# Altium footprint library C SMD .PcbLib: 37 footprints (part 2 of 3)
Each footprint in its own frame and in the unit in brackets; x right, y up, seen from the top. Pads: shape width x height; smd on the part's side, far side on the other; paste and mask are expansions set on the pad; w line width, h text height; cw(c..) or ccw(c..) is an arc to the next point about the centre after c.
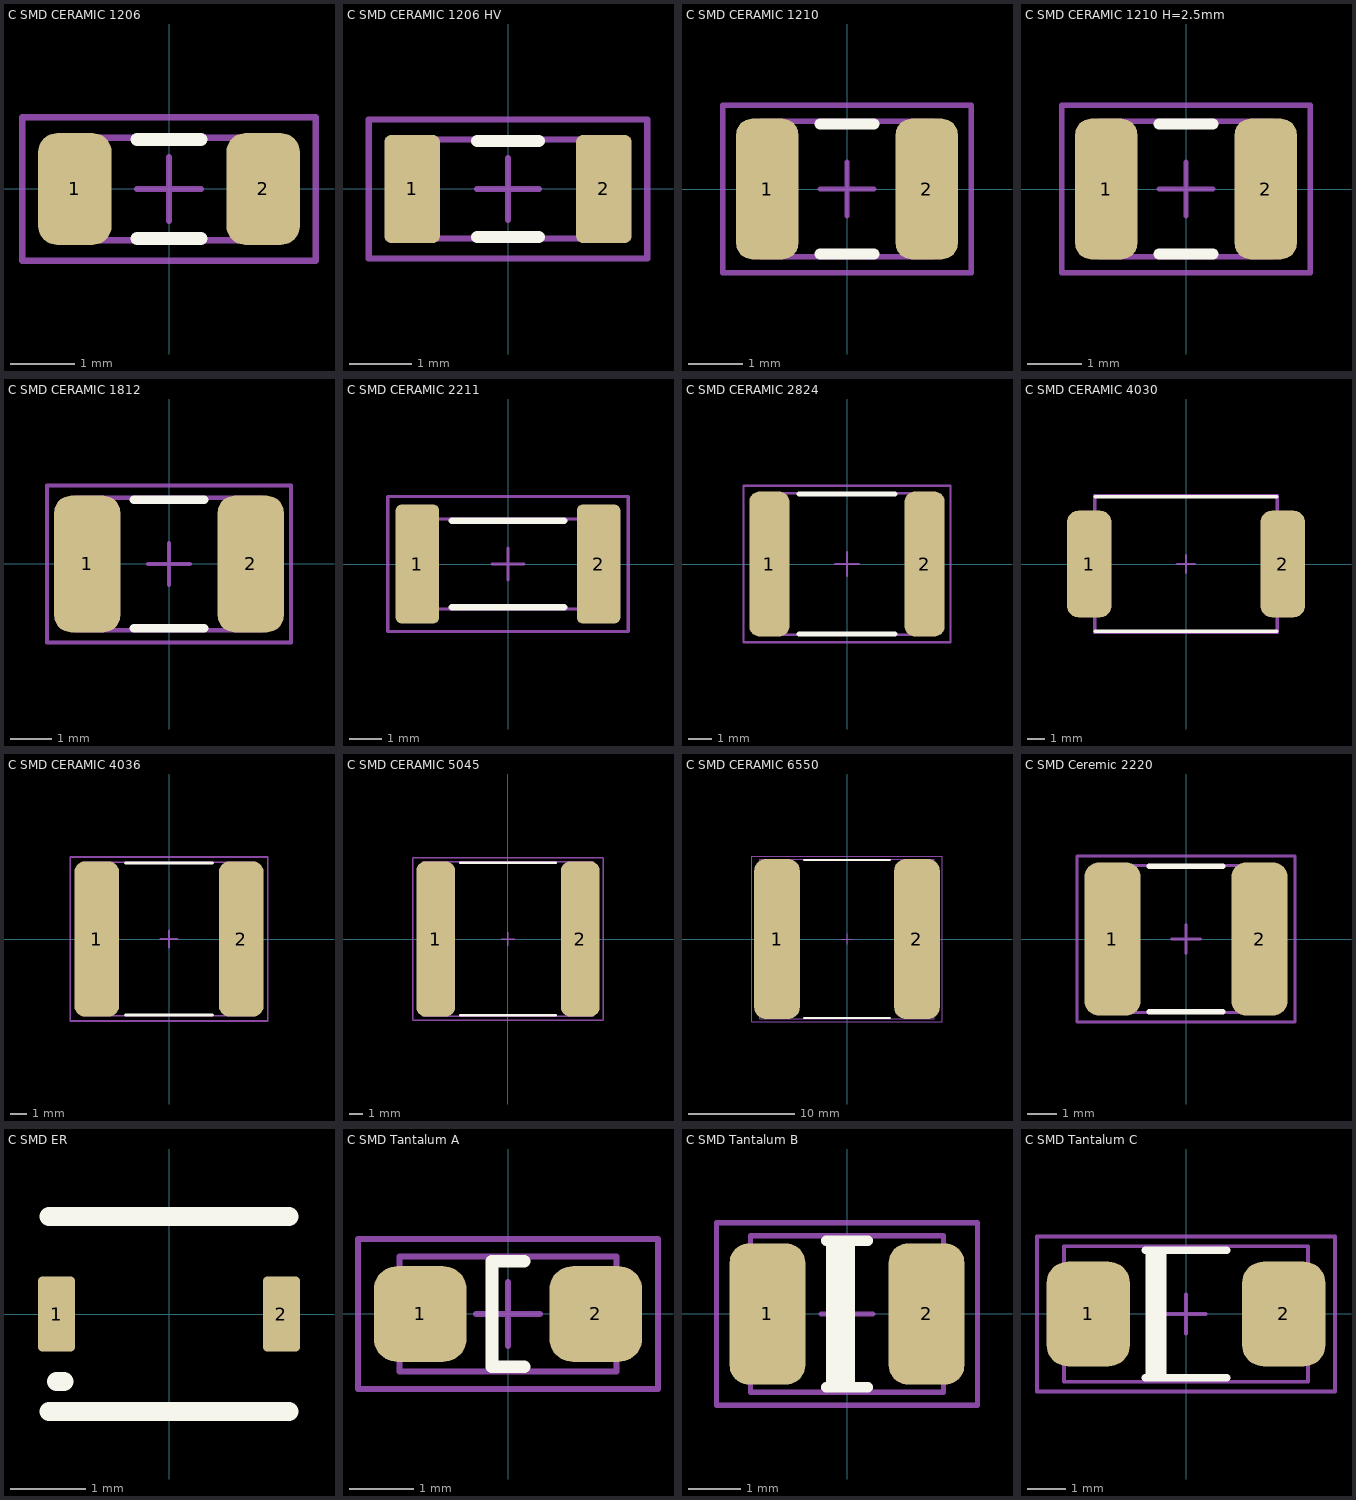
[diagram p1: the footprints below, top view; thin cyan lines are the x and y axes]

## C SMD CERAMIC 1206 [mm] "Chip Capacitor, 2-Leads, Body 3,2x1,6mm"
height 0.5
pads (2):
  rrect50% 1.15x1.75 smd: 1(-1.475,0) 2(1.475,0)
Top Overlay:
  lines w0.2: -0.5,-0.775 0.5,-0.775 ; -0.5,0.775 0.5,0.775
Mechanical 13:
  lines w0.1: -1.6,-0.8 1.6,-0.8 1.6,0.8 -1.6,0.8 -1.6,-0.8
Mechanical 15:
  lines w0.1: -0.5,0 0.5,0 ; 0,-0.5 0,0.5 ; -2.3,-1.125 2.3,-1.125 2.3,1.125 -2.3,1.125 -2.3,-1.125
3D body: height 0.95, standoff -0.01, extent -2.1,-0.9 2.1,0.9

## C SMD CERAMIC 1206 HV [mm] "Chip Capacitor, 2-Leads, Body 3,2x1,6mm"
height 0.5
pads (2):
  rrect25% 0.9x1.75 smd: 1(-1.55,0) 2(1.55,0)
Top Overlay:
  lines w0.2: -0.5,-0.775 0.5,-0.775 ; -0.5,0.775 0.5,0.775
Mechanical 13:
  lines w0.1: -1.6,-0.8 1.6,-0.8 1.6,0.8 -1.6,0.8 -1.6,-0.8
Mechanical 15:
  lines w0.1: -0.5,0 0.5,0 ; 0,-0.5 0,0.5 ; -2.25,-1.125 2.25,-1.125 2.25,1.125 -2.25,1.125 -2.25,-1.125
3D body: height 0.95, standoff -0.01, extent -2.1,-0.9 2.1,0.9

## C SMD CERAMIC 1210 [mm] "Chip Capacitor, 2-Leads, Body 3,2x2,5mm"
height 1
pads (2):
  rrect50% 1.15x2.6 smd: 1(-1.475,0) 2(1.475,0)
Top Overlay:
  lines w0.2: -0.5,-1.2 0.5,-1.2 ; -0.5,1.2 0.5,1.2
Mechanical 13:
  lines w0.1: -1.6,-1.25 -1.6,1.25 1.6,1.25 1.6,-1.25 -1.6,-1.25
Mechanical 15:
  lines w0.1: -0.5,0 0.5,0 ; 0,-0.5 0,0.5 ; -2.3,-1.55 -2.3,1.55 2.3,1.55 2.3,-1.55 -2.3,-1.55
3D body: height 0.95, standoff -0.01, extent -2.1,-1.35 2.1,1.35

## C SMD CERAMIC 1210 H=2.5mm [mm] "Chip Capacitor, 2-Leads, Body 3,2x2,5mm"
height 2.5
pads (2):
  rrect50% 1.15x2.6 smd: 1(-1.475,0) 2(1.475,0)
Top Overlay:
  lines w0.2: -0.5,-1.2 0.5,-1.2 ; -0.5,1.2 0.5,1.2
Mechanical 13:
  lines w0.1: -1.6,-1.25 -1.6,1.25 1.6,1.25 1.6,-1.25 -1.6,-1.25
Mechanical 15:
  lines w0.1: -0.5,0 0.5,0 ; 0,-0.5 0,0.5 ; -2.3,-1.55 -2.3,1.55 2.3,1.55 2.3,-1.55 -2.3,-1.55
3D body: height 2.5, standoff 0, extent -1,-1.25 1,1.25
3D body: height 2.5, standoff 0, extent -1.6,-1.25 -1,1.25
3D body: height 2.5, standoff 0, extent 1,-1.25 1.6,1.25

## C SMD CERAMIC 1812 [mm] "Chip Capacitor, 2-Leads, Body 4,5x3,2mm"
height 1
pads (2):
  rrect50% 1.6x3.3 smd: 1(-1.975,0) 2(1.975,0)
Top Overlay:
  lines w0.2: -0.85,-1.55 0.85,-1.55 ; -0.85,1.55 0.85,1.55
Mechanical 13:
  lines w0.1: -2.25,-1.6 -2.25,1.6 2.25,1.6 2.25,-1.6 -2.25,-1.6
Mechanical 15:
  lines w0.1: -0.5,0 0.5,0 ; 0,-0.5 0,0.5 ; -2.95,-1.9 -2.95,1.9 2.95,1.9 2.95,-1.9 -2.95,-1.9
3D body: height 1.25, standoff -0.01, extent -2.925,-1.725 2.917,1.704

## C SMD CERAMIC 2211 [mm] "Chip Capacitor, 2-Leads, Body 7x3,7mm"
height 2.5
pads (2):
  rrect25% 1.35x3.7 smd: 1(-2.825,0) 2(2.825,0)
Top Overlay:
  lines w0.2: -1.75,-1.35 1.75,-1.35 ; -1.75,1.35 1.75,1.35
Mechanical 13:
  lines w0.1: -2.85,-1.4 -2.85,1.4 2.85,1.4 2.85,-1.4 -2.85,-1.4
Mechanical 15:
  lines w0.1: -0.5,0 0.5,0 ; 0,-0.5 0,0.5 ; -3.75,-2.1 3.75,-2.1 3.75,2.1 -3.75,2.1 -3.75,-2.1
3D body: height 2.51, standoff 0, extent -2.85,-1.4 2.85,1.4

## C SMD CERAMIC 2824 [mm] "Chip Capacitor, 2-Leads, Body 7,3x6,0mm"
height 2
pads (2):
  rrect50% 1.7x6.15 smd: 1(-3.3,0) 2(3.3,0)
Top Overlay:
  lines w0.2: -2.05,-2.975 2.05,-2.975 ; -2.05,2.975 2.05,2.975
Mechanical 13:
  lines w0.1: -3.65,-3 -3.65,3 3.65,3 3.65,-3 -3.65,-3
Mechanical 15:
  lines w0.1: -0.5,0 0.5,0 ; 0,-0.5 0,0.5 ; -4.4,-3.325 -4.4,3.325 4.4,3.325 4.4,-3.325 -4.4,-3.325
3D body: height 2, standoff 0, extent -3.65,-3 3.65,3

## C SMD CERAMIC 4030 [mm]
height 5
pads (2):
  rrect50% 2.5x6 smd: 1(-5.45,0) 2(5.45,0)
Top Overlay:
  lines w0.2: -5.1,-3.8 5.1,-3.8 ; -5.1,3.8 5.1,3.8
Mechanical 13:
  lines w0.1: -5.1,-3.8 5.1,-3.8 5.1,3.8 -5.1,3.8 -5.1,-3.8
Mechanical 15:
  lines w0.1: -0.5,0 0.5,0 ; 0,-0.5 0,0.5 ; -5.2,-3.9 5.2,-3.9 5.2,3.9 -5.2,3.9 -5.2,-3.9
3D body: height 5, standoff 0, extent -5.1,-3.8 5.1,3.8

## C SMD CERAMIC 4036 [mm] "Chip Capacitor, 2-Leads, Body 10,2x9,1mm"
height 3
pads (2):
  rrect50% 2.65x9.2 smd: 1(-4.275,0) 2(4.275,0)
Top Overlay:
  lines w0.2: -2.55,-4.5 2.55,-4.5 ; -2.55,4.5 2.55,4.5
Mechanical 13:
  lines w0.1: -5.1,-4.55 5.1,-4.55 5.1,4.55 -5.1,4.55 -5.1,-4.55
Mechanical 15:
  lines w0.1: -0.5,0 0.5,0 ; 0,-0.5 0,0.5 ; -5.85,-4.85 5.85,-4.85 5.85,4.85 -5.85,4.85 -5.85,-4.85
3D body: height 3, standoff 0, extent -5.1,-4.55 5.1,4.55

## C SMD CERAMIC 5045 [mm] "Chip Capacitor, 2-Leads, Body 12,7x11,5mm"
height 4
pads (2):
  rrect50% 2.9x11.6 smd: 1(-5.4,0) 2(5.4,0)
Top Overlay:
  lines w0.2: -3.55,-5.7 3.55,-5.7 ; -3.55,5.7 3.55,5.7
Mechanical 13:
  lines w0.1: -6.35,-5.75 -6.35,5.75 6.35,5.75 6.35,-5.75 -6.35,-5.75
Mechanical 15:
  lines w0.1: -0.5,0 0.5,0 ; 0,-0.5 0,0.5 ; -7.1,-6.05 -7.1,6.05 7.1,6.05 7.1,-6.05 -7.1,-6.05
3D body: height 4, standoff 0, extent -6.35,-5.75 6.35,5.75

## C SMD CERAMIC 6550 [mm] "Chip Capacitor, 2-Leads, Body 16,5x15,0mm"
height 5
pads (2):
  rrect50% 4.3x15.1 smd: 1(-6.6,0) 2(6.6,0)
Top Overlay:
  lines w0.2: -4.05,-7.45 4.05,-7.45 ; -4.05,7.45 4.05,7.45
Mechanical 13:
  lines w0.1: -8.25,-7.5 -8.25,7.5 8.25,7.5 8.25,-7.5 -8.25,-7.5
Mechanical 15:
  lines w0.1: -0.5,0 0.5,0 ; 0,-0.5 0,0.5 ; -9,-7.8 -9,7.8 9,7.8 9,-7.8 -9,-7.8
3D body: height 5, standoff 0, extent -8.25,-7.5 8.25,7.5

## C SMD Ceremic 2220 [mm] "Chip Capacitor, 2-Leads, Body 5,7x5,0mm"
height 2
pads (2):
  rrect50% 1.9x5.2 smd: 1(-2.5,0) 2(2.5,0)
Top Overlay:
  lines w0.2: -1.25,-2.475 1.25,-2.475 ; -1.25,2.475 1.25,2.475
Mechanical 13:
  lines w0.1: -2.85,-2.5 -2.85,2.5 2.85,2.5 2.85,-2.5 -2.85,-2.5
Mechanical 15:
  lines w0.1: -0.5,0 0.5,0 ; 0,-0.5 0,0.5 ; -3.7,-2.825 -3.7,2.825 3.7,2.825 3.7,-2.825 -3.7,-2.825
3D body: height 2.3, standoff 0, extent -3.5,-2.725 3.485,2.736

## C SMD ER [mm] "Super Capacitor"
height 1
pads (2):
  rrect25% 0.5x1 smd: 1(-1.5,0) 2(1.5,0)
Top Overlay:
  lines w0.254: -1.6,-1.3 1.6,-1.3 ; -1.6,1.3 1.6,1.3 ; -1.5,-0.9 -1.4,-0.9
3D body: height 1, standoff 0, extent -1.6,-1.25 1.6,1.25

## C SMD Tantalum A [mm] "Chip Capacitor, 2-Leads, Body 3,2x1,6mm"
height 1.6
pads (2):
  rrect50% 1.45x1.5 smd: 1(-1.375,0) 2(1.375,0)
Top Overlay:
  lines w0.2: 0.25,-0.825 -0.25,-0.825 -0.25,0.825 0.25,0.825
Mechanical 13:
  lines w0.1: -1.7,-0.9 -1.7,0.9 1.7,0.9 1.7,-0.9 -1.7,-0.9
Mechanical 15:
  lines w0.1: -0.5,0 0.5,0 ; 0,-0.5 0,0.5 ; -2.35,-1.175 -2.35,1.175 2.35,1.175 2.35,-1.175 -2.35,-1.175
3D body: height 1.8, standoff -0.04, extent -2.396,-0.9 2.4,0.903

## C SMD Tantalum B [mm] "Chip Capacitor, 2-Leads, Body 3,5x2,8mm"
height 1.9
pads (2):
  rrect50% 1.45x2.7 smd: 1(-1.525,0) 2(1.525,0)
Top Overlay:
  rectangle: -0.4,-1.4 0.15,1.4
  lines w0.2: -0.4,-1.4 0.4,-1.4 ; -0.4,1.4 0.4,1.4
Mechanical 13:
  lines w0.1: -1.85,-1.5 1.85,-1.5 1.85,1.5 -1.85,1.5 -1.85,-1.5
Mechanical 15:
  lines w0.1: -0.5,0 0.5,0 ; 0,-0.5 0,0.5 ; -2.5,-1.75 2.5,-1.75 2.5,1.75 -2.5,1.75 -2.5,-1.75
3D body: height 2.11, standoff -0.04, extent -2.499,-1.5 2.499,1.497

## C SMD Tantalum C [mm] "Chip Capacitor, 2-Leads, Body 6,0x3,2mm"
height 2.5
pads (2):
  rrect50% 2.15x2.7 smd: 1(-2.525,0) 2(2.525,0)
Top Overlay:
  rectangle: -1.05,-1.65 -0.5,1.65
  lines w0.2: -1.05,-1.65 1.05,-1.65 ; -1.05,1.65 1.05,1.65
Mechanical 13:
  lines w0.1: -3.15,-1.75 3.15,-1.75 3.15,1.75 -3.15,1.75 -3.15,-1.75
Mechanical 15:
  lines w0.1: -0.5,0 0.5,0 ; 0,-0.5 0,0.5 ; -3.85,-2 3.85,-2 3.85,2 -3.85,2 -3.85,-2
3D body: height 2.79, standoff -0.04, extent -3.824,-1.763 3.773,1.75